# Altium footprint library MD1213K6-G.PcbLib: 1 footprints
Each footprint in its own frame and in the unit in brackets; x right, y up, seen from the top. Pads: shape width x height; smd on the part's side, far side on the other; paste and mask are expansions set on the pad; w line width, h text height; cw(c..) or ccw(c..) is an arc to the next point about the centre after c.
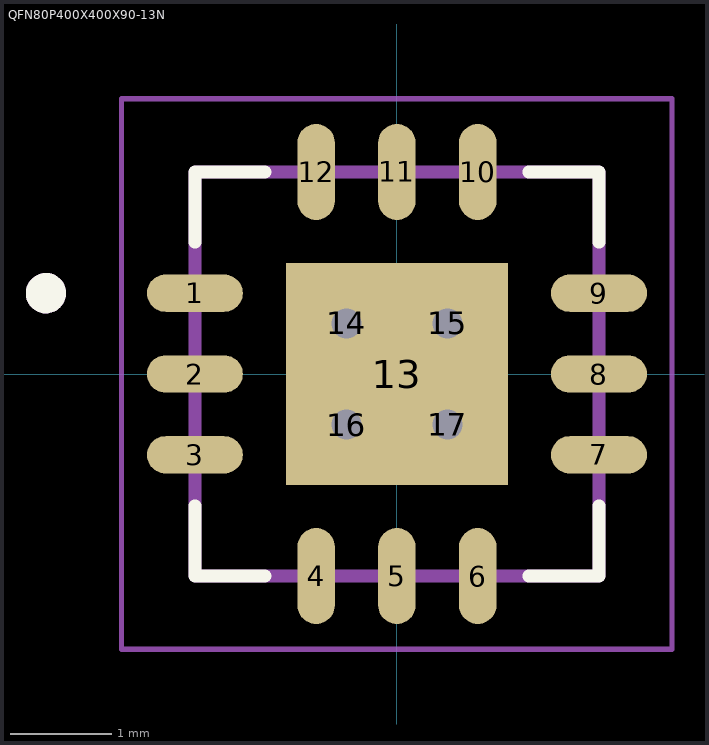
[diagram p0: the footprint, top view; thin cyan lines are the x and y axes]

## QFN80P400X400X90-13N [mm]
pads (17):
  oval 0.95x0.37 smd: 1(-2,0.8) 2(-2,0) 3(-2,-0.8) 7(2,-0.8) 8(2,0) 9(2,0.8)
  oval 0.37x0.95 smd: 4(-0.8,-2) 5(0,-2) 6(0.8,-2) 10(0.8,2) 11(0,2) 12(-0.8,2)
  rect 2.2x2.2 smd paste-0.404: 13(0,0)
  round 0.5 hole 0.3 mask+0: 14(-0.5,0.5) 15(0.5,0.5) 16(-0.5,-0.5) 17(0.5,-0.5)
Top Overlay:
  circle w0.2: c-3.475,0.8 r0.1
  lines w0.127: -2,-1.305 -2,-2 -1.305,-2 ; -2,1.305 -2,2 -1.305,2 ; 1.305,-2 2,-2 2,-1.305 ; 1.305,2 2,2 2,1.305
Mechanical 13:
  circle w0.2: c-3.475,0.8 r0.1
  lines w0.127: -2,-2 -2,2 2,2 2,-2 -2,-2
Mechanical 15:
  lines w0.05: -2.725,-2.725 2.725,-2.725 2.725,2.725 -2.725,2.725 -2.725,-2.725